# Altium schematic symbol library SCH - PASSIVES - RESISTOR ARRAY (2 CIRCUIT).SCHLIB: 1 symbol
Pins are listed as number, name and electrical type; pins without a type are passive.

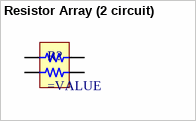
[diagram p0: symbol Resistor Array (2 circuit)]

## Resistor Array (2 circuit)
designator R?
SMT Resistor Array
pins: 1, 2, 3, 4